# Altium footprint library Face_Ant1V0.PcbLib: 1 footprints
Each footprint in its own frame and in the unit in brackets; x right, y up, seen from the top. Pads: shape width x height; smd on the part's side, far side on the other; paste and mask are expansions set on the pad; w line width, h text height; cw(c..) or ccw(c..) is an arc to the next point about the centre after c.
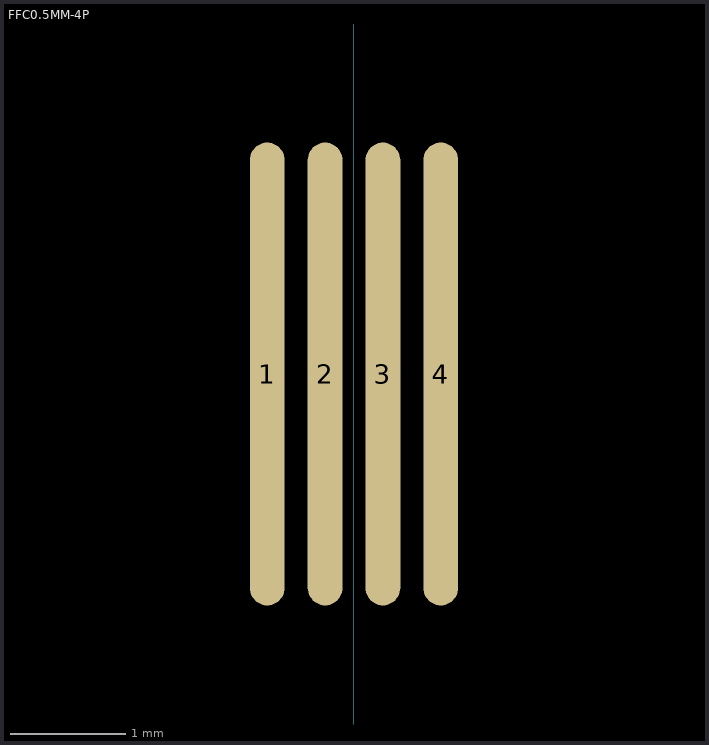
[diagram p0: the footprint, top view; thin cyan lines are the x and y axes]

## FFC0.5MM-4P [mm]
pads (4):
  oval 0.3x4 smd: 1(-0.75,-3.108) 2(-0.25,-3.108) 3(0.25,-3.108) 4(0.75,-3.108)